# EAGLE library part SIM7000C (library e-Lib-ModemsGps)
SIM7000C LTE and GPS module The SIM7000 series modules support GSM, LTE CAT-M1, LTE CAT-NB1 and GPS/GNSS. The physical dimension of SIM7000 is 24 × 24 × 2.6mm mm. And the physical dimension is compatible with the packaging of SIM900, SIM800 and SIM800F. Datasheet: SIM7000C <http://www.shenzhen2u.com/doc/Module/SIM7000C/SIM7000%20Hardware%20Design_V1.01.pdf>
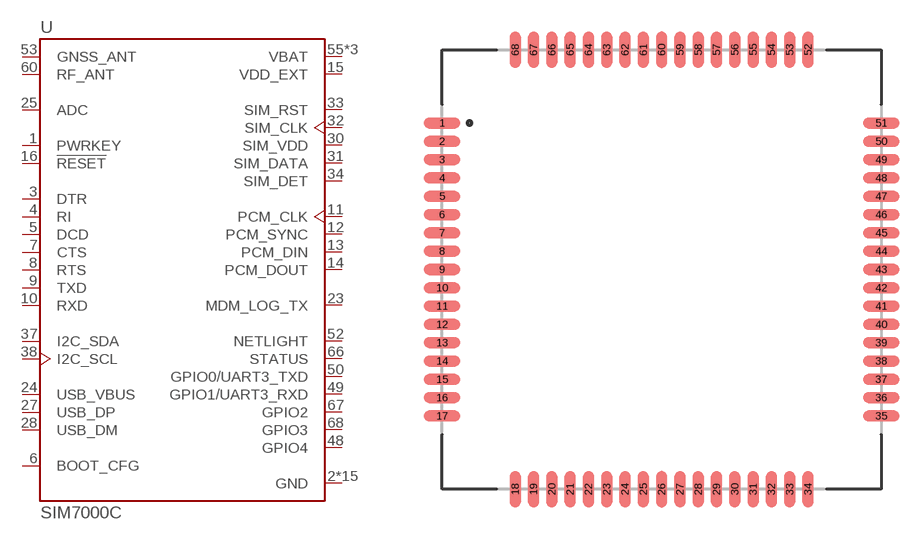
[diagram p1: symbol with the pads of LCC_SIM7000C; footprint LCC_SIM7000C]

Designator prefix U

## SIM7000C  [LCC_SIM7000C]
1  PWRKEY  in
2  GND  pwr
3  DTR  in
4  RI  out
5  DCD  out
6  BOOT_CFG  in
7  CTS  out
8  RTS  in
9  TXD  out
10  RXD  in
11  PCM_CLK  out
12  PCM_SYNC  out
13  PCM_DIN  in
14  PCM_DOUT  out
15  VDD_EXT  pwr
16  !RESET  in
17  GND  pwr
18  GND  pwr
23  MDM_LOG_TX  out
24  USB_VBUS  pwr
25  ADC  in
27  USB_DP
28  USB_DM
29  GND  pwr
30  SIM_VDD  out
31  SIM_DATA
32  SIM_CLK  out
33  SIM_RST  out
34  SIM_DET  in
37  I2C_SDA
38  I2C_SCL  out
39  GND  pwr
45  GND  pwr
46  GND  pwr
48  GPIO4
49  GPIO1/UART3_RXD
50  GPIO0/UART3_TXD
52  NETLIGHT  out
53  GNSS_ANT  in
54  GND  pwr
55  VBAT  pwr
56  VBAT  pwr
57  VBAT  pwr
58  GND  pwr
59  GND  pwr
60  RF_ANT
61  GND  pwr
62  GND  pwr
63  GND  pwr
64  GND  pwr
65  GND  pwr
66  STATUS  out
67  GPIO2
68  GPIO3

## Footprint LCC_SIM7000C (pad centres in mm)
smd 2 x 0.6: 1 -12,8; 2 -12,7; 3 -12,6; 4 -12,5; 5 -12,4; 6 -12,3; 7 -12,2; 8 -12,1; 9 -12,0; 10 -12,-1; 11 -12,-2; 12 -12,-3; 13 -12,-4; 14 -12,-5; 15 -12,-6; 16 -12,-7; 17 -12,-8; 35 12,-8; 36 12,-7; 37 12,-6; 38 12,-5; 39 12,-4; 40 12,-3; 41 12,-2; 42 12,-1; 43 12,0; 44 12,1; 45 12,2; 46 12,3; 47 12,4; 48 12,5; 49 12,6; 50 12,7; 51 12,8
smd 0.6 x 2: 18 -8,-12; 19 -7,-12; 20 -6,-12; 21 -5,-12; 22 -4,-12; 23 -3,-12; 24 -2,-12; 25 -1,-12; 26 0,-12; 27 1,-12; 28 2,-12; 29 3,-12; 30 4,-12; 31 5,-12; 32 6,-12; 33 7,-12; 34 8,-12; 52 8,12; 53 7,12; 54 6,12; 55 5,12; 56 4,12; 57 3,12; 58 2,12; 59 1,12; 60 0,12; 61 -1,12; 62 -2,12; 63 -3,12; 64 -4,12; 65 -5,12; 66 -6,12; 67 -7,12; 68 -8,12